# Altium integrated library TI Data Converters Analog to Digital Converter.IntLib: 2198 symbols (part 62 of 164)
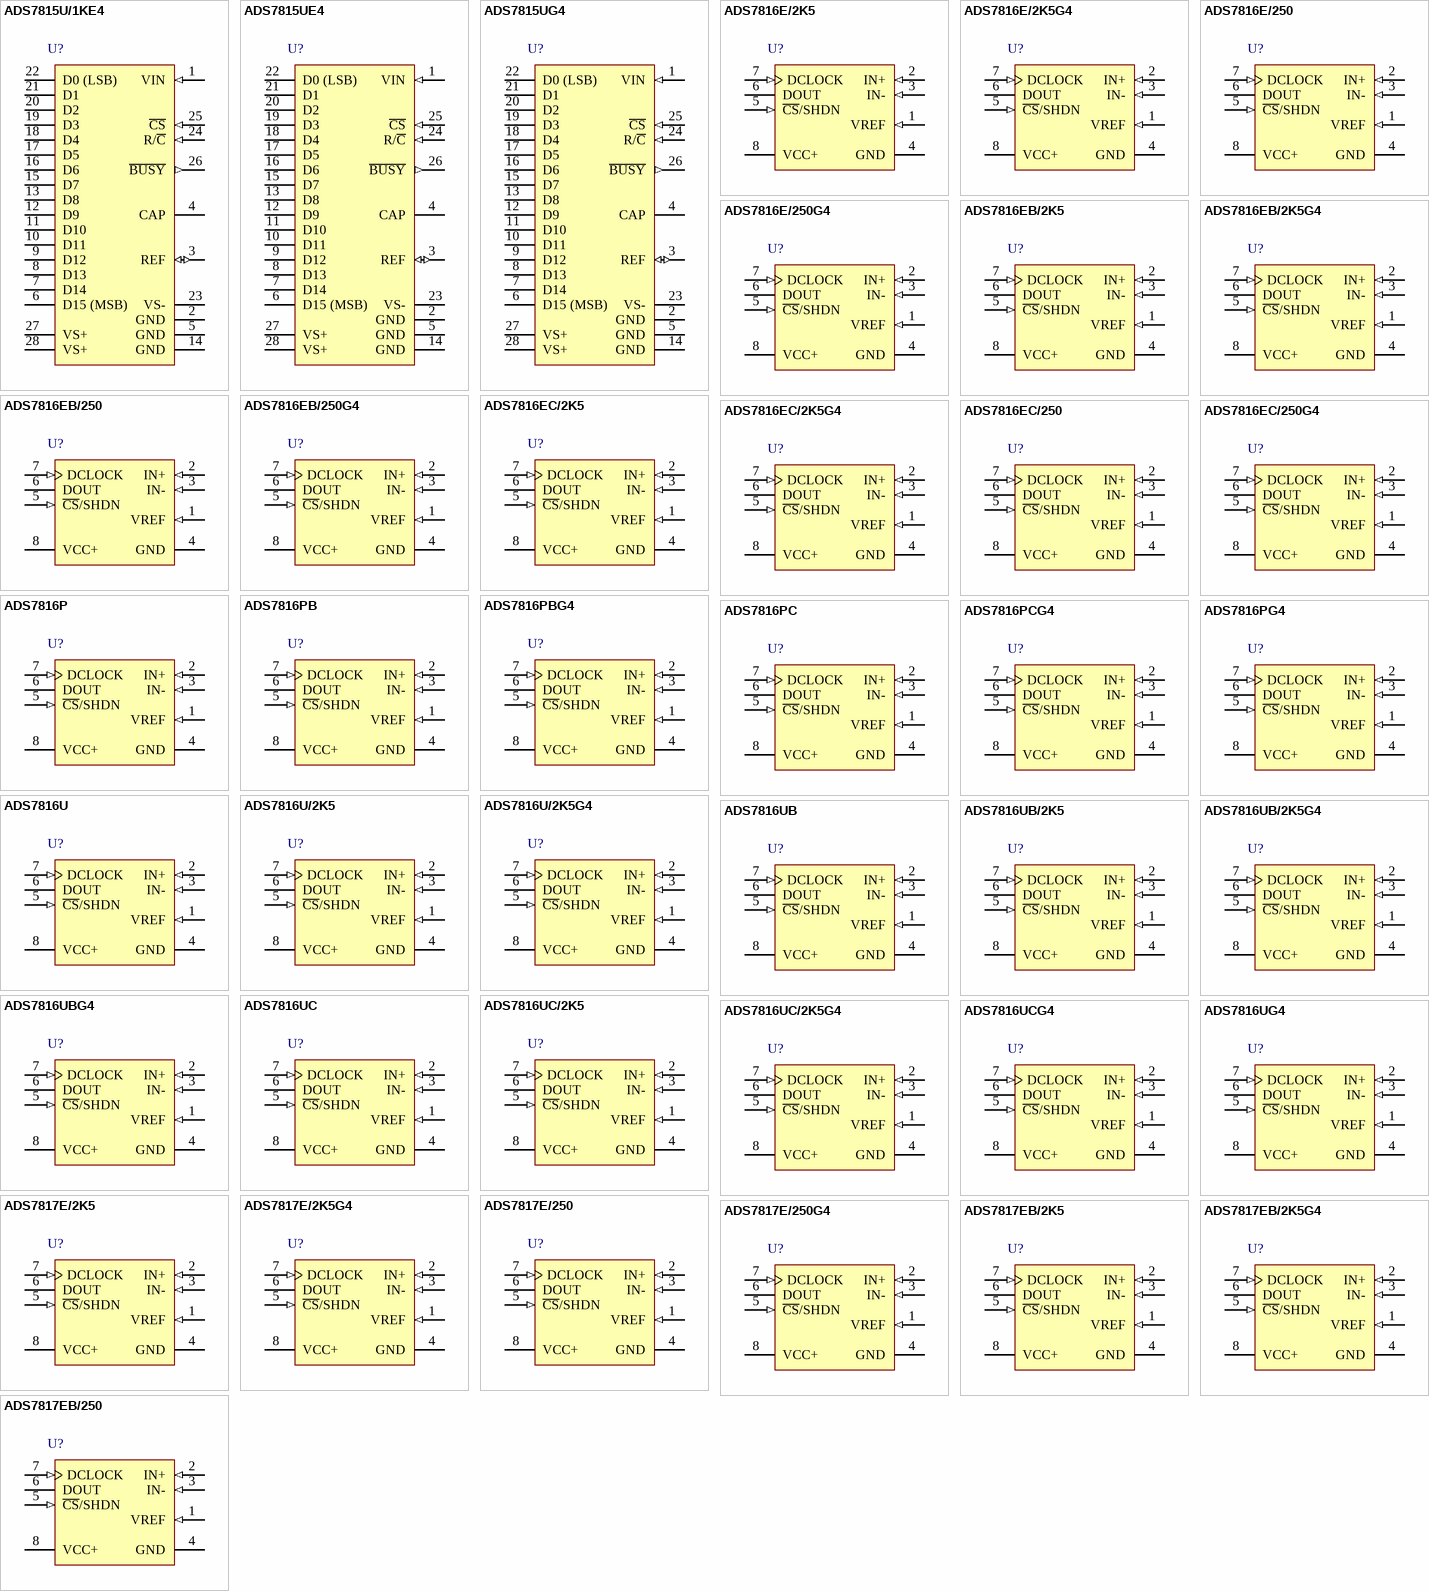
[diagram p187: symbols ADS7815U/1KE4 to ADS7817EB/250]

## ADS7817EB/250
designator U?
12-Bit Differential Input Micro Power Sampling ADC, -40 to 85 degC, 8-pin SOP (DGK8), Green (RoHS & no Sb/Br); Manufacturer: Texas Instruments; PartNumber: ADS7817EB/250; # Input Channels: 1; Analog Voltage AV/DD(Max)(V): 5.25; Analog Voltage AV/DD(Min)(V): 4.75; Architecture: SAR; Interface: Serial SPI; Resolution(Bits): 12; Sample Rate (max)(SPS): 200k; SFDR(dB): 86; SINAD(dB): 71; SubFamily: Precision ADC (<=10MSPS); DatasheetVersion: SBAS066A; PackageVersion: 4073329/E, 05/2006; PackageReference: DGK8; PackageDescription: 8-Pin Thin Small Outline, Body 3 x 3 mm, Pitch 0.65 mm; Supplier 1: Digi-Key; Supplier Part Number 1: ADS1605IPAPRG4-ND; Digital Supply(Max)(V): 5.25; Digital Supply(Min)(V): 4.75; Eco-Plan: Green (RoHS & no Sb/Br); INL(Max)(+/-LSB): 1; Mounting Technology: Surface Mount; Code_JEDEC: MO-187; ComponentLink1Description: Manufacturer URL; ComponentLink1URL: http://www.ti.com/; ComponentLink2Description: Datasheet; ComponentLink2URL: http://www.ti.com/general/docs/lit/getliterature.tsp?genericPartNumber=ADS7817&fileType=pdf; ComponentLink3Description: Package Specification; ComponentLink3URL: http://www.ti.com/litv/pdf/mpds028d
footprint TI-DGK8_N (SOP, 8-Leads, Body 3x3mm, Pitch 0.65mm, IPC Medium Density)
footprint TI-DGK8_L (SOP, 8-Leads, Body 3x3mm, Pitch 0.65mm, IPC High Density)
footprint TI-DGK8_M (SOP, 8-Leads, Body 3x3mm, Pitch 0.65mm, IPC Low Density)
pins: 1 VREF (in) "Reference input", 2 IN+ (in) "Noninverting input", 3 IN- (in) "Inverting input. Connect to ground or to remote ground sense point.", 4 GND (power) "Ground", 5 ~{CS}/SHDN (in) "Chip select when low; Shutdown mode when high.", 6 DOUT (hiz) "The serial output data word  is comprised of 12 bits of data. In operation, the data are valid on the falling edge of DCLOCK. The second clock pulse after the falling edge of C\S\ enables the serial output. After one null (See Datasheet)", 7 DCLOCK (in) "Data clock synchronizes the serial data transfer and determines conversion speed.", 8 VCC+ (power) "Power supply"

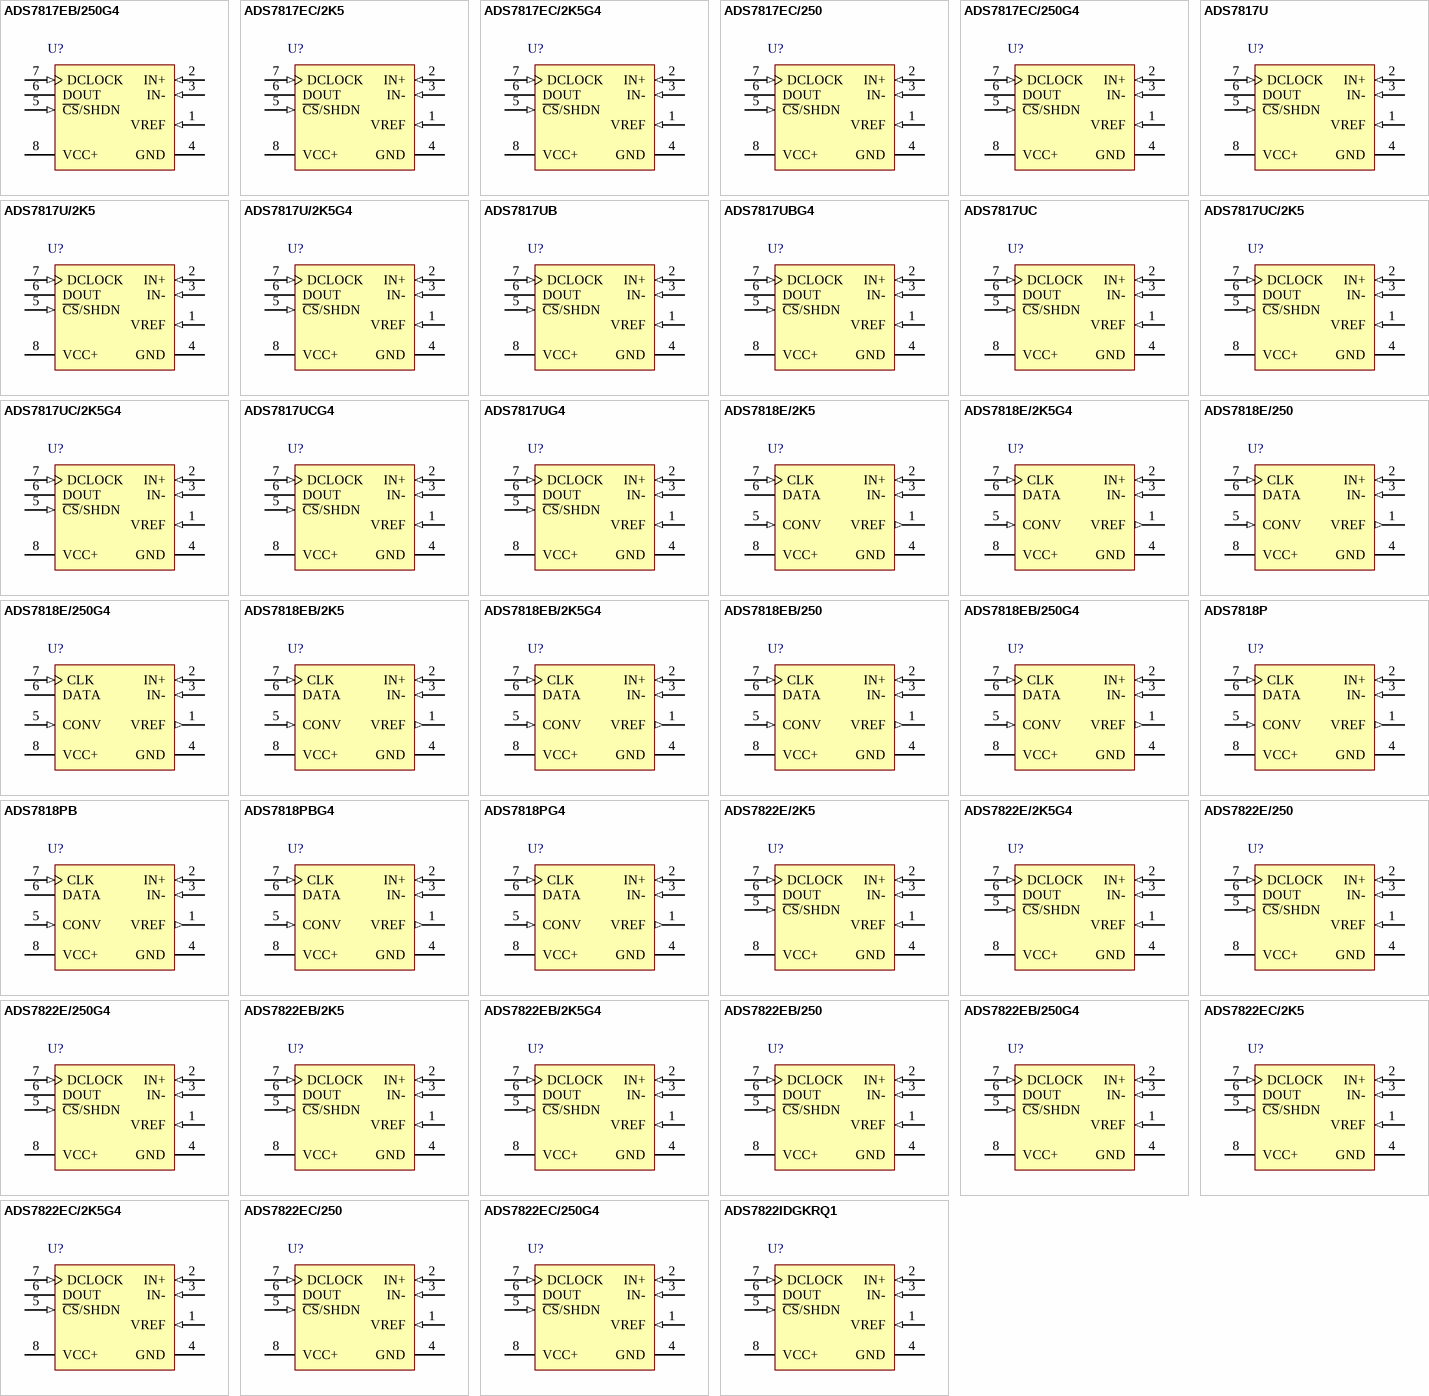
[diagram p60: symbols ADS7817EB/250G4 to ADS7822IDGKRQ1]

## ADS7817EB/250G4
designator U?
12-Bit Differential Input Micro Power Sampling ADC, -40 to 85 degC, 8-pin SOP (DGK8), Green (RoHS & no Sb/Br); Manufacturer: Texas Instruments; PartNumber: ADS7817EB/250G4; # Input Channels: 1; Analog Voltage AV/DD(Max)(V): 5.25; Analog Voltage AV/DD(Min)(V): 4.75; Architecture: SAR; Interface: Serial SPI; Resolution(Bits): 12; Sample Rate (max)(SPS): 200k; SFDR(dB): 86; SINAD(dB): 71; SubFamily: Precision ADC (<=10MSPS); DatasheetVersion: SBAS066A; PackageVersion: 4073329/E, 05/2006; PackageReference: DGK8; PackageDescription: 8-Pin Thin Small Outline, Body 3 x 3 mm, Pitch 0.65 mm; Supplier 1: Digi-Key; Supplier Part Number 1: 296-14643-2-ND; Digital Supply(Max)(V): 5.25; Digital Supply(Min)(V): 4.75; Eco-Plan: Green (RoHS & no Sb/Br); INL(Max)(+/-LSB): 1; Mounting Technology: Surface Mount; Code_JEDEC: MO-187; ComponentLink1Description: Manufacturer URL; ComponentLink1URL: http://www.ti.com/; ComponentLink2Description: Datasheet; ComponentLink2URL: http://www.ti.com/general/docs/lit/getliterature.tsp?genericPartNumber=ADS7817&fileType=pdf; ComponentLink3Description: Package Specification; ComponentLink3URL: http://www.ti.com/litv/pdf/mpds028d
footprint TI-DGK8_N (SOP, 8-Leads, Body 3x3mm, Pitch 0.65mm, IPC Medium Density)
footprint TI-DGK8_L (SOP, 8-Leads, Body 3x3mm, Pitch 0.65mm, IPC High Density)
footprint TI-DGK8_M (SOP, 8-Leads, Body 3x3mm, Pitch 0.65mm, IPC Low Density)
pins: 1 VREF (in) "Reference input", 2 IN+ (in) "Noninverting input", 3 IN- (in) "Inverting input. Connect to ground or to remote ground sense point.", 4 GND (power) "Ground", 5 ~{CS}/SHDN (in) "Chip select when low; Shutdown mode when high.", 6 DOUT (hiz) "The serial output data word  is comprised of 12 bits of data. In operation, the data are valid on the falling edge of DCLOCK. The second clock pulse after the falling edge of C\S\ enables the serial output. After one null (See Datasheet)", 7 DCLOCK (in) "Data clock synchronizes the serial data transfer and determines conversion speed.", 8 VCC+ (power) "Power supply"

## ADS7817EC/2K5
designator U?
12-Bit Differential Input Micro Power Sampling ADC, -40 to 85 degC, 8-pin SOP (DGK8), Green (RoHS & no Sb/Br); Manufacturer: Texas Instruments; PartNumber: ADS7817EC/2K5; # Input Channels: 1; Analog Voltage AV/DD(Max)(V): 5.25; Analog Voltage AV/DD(Min)(V): 4.75; Architecture: SAR; Interface: Serial SPI; Resolution(Bits): 12; Sample Rate (max)(SPS): 200k; SFDR(dB): 86; SINAD(dB): 71; SubFamily: Precision ADC (<=10MSPS); DatasheetVersion: SBAS066A; PackageVersion: 4073329/E, 05/2006; PackageReference: DGK8; PackageDescription: 8-Pin Thin Small Outline, Body 3 x 3 mm, Pitch 0.65 mm; Supplier 1: Digi-Key; Supplier Part Number 1: ADS1605IPAPTG4-ND; Digital Supply(Max)(V): 5.25; Digital Supply(Min)(V): 4.75; Eco-Plan: Green (RoHS & no Sb/Br); INL(Max)(+/-LSB): 1; Mounting Technology: Surface Mount; Code_JEDEC: MO-187; ComponentLink1Description: Manufacturer URL; ComponentLink1URL: http://www.ti.com/; ComponentLink2Description: Datasheet; ComponentLink2URL: http://www.ti.com/general/docs/lit/getliterature.tsp?genericPartNumber=ADS7817&fileType=pdf; ComponentLink3Description: Package Specification; ComponentLink3URL: http://www.ti.com/litv/pdf/mpds028d
footprint TI-DGK8_N (SOP, 8-Leads, Body 3x3mm, Pitch 0.65mm, IPC Medium Density)
footprint TI-DGK8_L (SOP, 8-Leads, Body 3x3mm, Pitch 0.65mm, IPC High Density)
footprint TI-DGK8_M (SOP, 8-Leads, Body 3x3mm, Pitch 0.65mm, IPC Low Density)
pins: 1 VREF (in) "Reference input", 2 IN+ (in) "Noninverting input", 3 IN- (in) "Inverting input. Connect to ground or to remote ground sense point.", 4 GND (power) "Ground", 5 ~{CS}/SHDN (in) "Chip select when low; Shutdown mode when high.", 6 DOUT (hiz) "The serial output data word  is comprised of 12 bits of data. In operation, the data are valid on the falling edge of DCLOCK. The second clock pulse after the falling edge of C\S\ enables the serial output. After one null (See Datasheet)", 7 DCLOCK (in) "Data clock synchronizes the serial data transfer and determines conversion speed.", 8 VCC+ (power) "Power supply"

## ADS7817EC/2K5G4
designator U?
12-Bit Differential Input Micro Power Sampling ADC, -40 to 85 degC, 8-pin SOP (DGK8), Green (RoHS & no Sb/Br); Manufacturer: Texas Instruments; PartNumber: ADS7817EC/2K5G4; # Input Channels: 1; Analog Voltage AV/DD(Max)(V): 5.25; Analog Voltage AV/DD(Min)(V): 4.75; Architecture: SAR; Interface: Serial SPI; Resolution(Bits): 12; Sample Rate (max)(SPS): 200k; SFDR(dB): 86; SINAD(dB): 71; SubFamily: Precision ADC (<=10MSPS); DatasheetVersion: SBAS066A; PackageVersion: 4073329/E, 05/2006; PackageReference: DGK8; PackageDescription: 8-Pin Thin Small Outline, Body 3 x 3 mm, Pitch 0.65 mm; Supplier 1: Digi-Key; Supplier Part Number 1: ADS2807Y/1K5TR-ND; Digital Supply(Max)(V): 5.25; Digital Supply(Min)(V): 4.75; Eco-Plan: Green (RoHS & no Sb/Br); INL(Max)(+/-LSB): 1; Mounting Technology: Surface Mount; Code_JEDEC: MO-187; ComponentLink1Description: Manufacturer URL; ComponentLink1URL: http://www.ti.com/; ComponentLink2Description: Datasheet; ComponentLink2URL: http://www.ti.com/general/docs/lit/getliterature.tsp?genericPartNumber=ADS7817&fileType=pdf; ComponentLink3Description: Package Specification; ComponentLink3URL: http://www.ti.com/litv/pdf/mpds028d
footprint TI-DGK8_N (SOP, 8-Leads, Body 3x3mm, Pitch 0.65mm, IPC Medium Density)
footprint TI-DGK8_L (SOP, 8-Leads, Body 3x3mm, Pitch 0.65mm, IPC High Density)
footprint TI-DGK8_M (SOP, 8-Leads, Body 3x3mm, Pitch 0.65mm, IPC Low Density)
pins: 1 VREF (in) "Reference input", 2 IN+ (in) "Noninverting input", 3 IN- (in) "Inverting input. Connect to ground or to remote ground sense point.", 4 GND (power) "Ground", 5 ~{CS}/SHDN (in) "Chip select when low; Shutdown mode when high.", 6 DOUT (hiz) "The serial output data word  is comprised of 12 bits of data. In operation, the data are valid on the falling edge of DCLOCK. The second clock pulse after the falling edge of C\S\ enables the serial output. After one null (See Datasheet)", 7 DCLOCK (in) "Data clock synchronizes the serial data transfer and determines conversion speed.", 8 VCC+ (power) "Power supply"

## ADS7817EC/250
designator U?
12-Bit Differential Input Micro Power Sampling ADC, -40 to 85 degC, 8-pin SOP (DGK8), Green (RoHS & no Sb/Br); Manufacturer: Texas Instruments; PartNumber: ADS7817EC/250; # Input Channels: 1; Analog Voltage AV/DD(Max)(V): 5.25; Analog Voltage AV/DD(Min)(V): 4.75; Architecture: SAR; Interface: Serial SPI; Resolution(Bits): 12; Sample Rate (max)(SPS): 200k; SFDR(dB): 86; SINAD(dB): 71; SubFamily: Precision ADC (<=10MSPS); DatasheetVersion: SBAS066A; PackageVersion: 4073329/E, 05/2006; PackageReference: DGK8; PackageDescription: 8-Pin Thin Small Outline, Body 3 x 3 mm, Pitch 0.65 mm; Supplier 1: Digi-Key; Supplier Part Number 1: ADS2807Y/1K5G4-ND; Digital Supply(Max)(V): 5.25; Digital Supply(Min)(V): 4.75; Eco-Plan: Green (RoHS & no Sb/Br); INL(Max)(+/-LSB): 1; Mounting Technology: Surface Mount; Code_JEDEC: MO-187; ComponentLink1Description: Manufacturer URL; ComponentLink1URL: http://www.ti.com/; ComponentLink2Description: Datasheet; ComponentLink2URL: http://www.ti.com/general/docs/lit/getliterature.tsp?genericPartNumber=ADS7817&fileType=pdf; ComponentLink3Description: Package Specification; ComponentLink3URL: http://www.ti.com/litv/pdf/mpds028d
footprint TI-DGK8_N (SOP, 8-Leads, Body 3x3mm, Pitch 0.65mm, IPC Medium Density)
footprint TI-DGK8_L (SOP, 8-Leads, Body 3x3mm, Pitch 0.65mm, IPC High Density)
footprint TI-DGK8_M (SOP, 8-Leads, Body 3x3mm, Pitch 0.65mm, IPC Low Density)
pins: 1 VREF (in) "Reference input", 2 IN+ (in) "Noninverting input", 3 IN- (in) "Inverting input. Connect to ground or to remote ground sense point.", 4 GND (power) "Ground", 5 ~{CS}/SHDN (in) "Chip select when low; Shutdown mode when high.", 6 DOUT (hiz) "The serial output data word  is comprised of 12 bits of data. In operation, the data are valid on the falling edge of DCLOCK. The second clock pulse after the falling edge of C\S\ enables the serial output. After one null (See Datasheet)", 7 DCLOCK (in) "Data clock synchronizes the serial data transfer and determines conversion speed.", 8 VCC+ (power) "Power supply"

## ADS7817EC/250G4
designator U?
12-Bit Differential Input Micro Power Sampling ADC, -40 to 85 degC, 8-pin SOP (DGK8), Green (RoHS & no Sb/Br); Manufacturer: Texas Instruments; PartNumber: ADS7817EC/250G4; # Input Channels: 1; Analog Voltage AV/DD(Max)(V): 5.25; Analog Voltage AV/DD(Min)(V): 4.75; Architecture: SAR; Interface: Serial SPI; Resolution(Bits): 12; Sample Rate (max)(SPS): 200k; SFDR(dB): 86; SINAD(dB): 71; SubFamily: Precision ADC (<=10MSPS); DatasheetVersion: SBAS066A; PackageVersion: 4073329/E, 05/2006; PackageReference: DGK8; PackageDescription: 8-Pin Thin Small Outline, Body 3 x 3 mm, Pitch 0.65 mm; Supplier 1: Digi-Key; Supplier Part Number 1: ADS2807Y/250TR-ND; Digital Supply(Max)(V): 5.25; Digital Supply(Min)(V): 4.75; Eco-Plan: Green (RoHS & no Sb/Br); INL(Max)(+/-LSB): 1; Mounting Technology: Surface Mount; Code_JEDEC: MO-187; ComponentLink1Description: Manufacturer URL; ComponentLink1URL: http://www.ti.com/; ComponentLink2Description: Datasheet; ComponentLink2URL: http://www.ti.com/general/docs/lit/getliterature.tsp?genericPartNumber=ADS7817&fileType=pdf; ComponentLink3Description: Package Specification; ComponentLink3URL: http://www.ti.com/litv/pdf/mpds028d
footprint TI-DGK8_N (SOP, 8-Leads, Body 3x3mm, Pitch 0.65mm, IPC Medium Density)
footprint TI-DGK8_L (SOP, 8-Leads, Body 3x3mm, Pitch 0.65mm, IPC High Density)
footprint TI-DGK8_M (SOP, 8-Leads, Body 3x3mm, Pitch 0.65mm, IPC Low Density)
pins: 1 VREF (in) "Reference input", 2 IN+ (in) "Noninverting input", 3 IN- (in) "Inverting input. Connect to ground or to remote ground sense point.", 4 GND (power) "Ground", 5 ~{CS}/SHDN (in) "Chip select when low; Shutdown mode when high.", 6 DOUT (hiz) "The serial output data word  is comprised of 12 bits of data. In operation, the data are valid on the falling edge of DCLOCK. The second clock pulse after the falling edge of C\S\ enables the serial output. After one null (See Datasheet)", 7 DCLOCK (in) "Data clock synchronizes the serial data transfer and determines conversion speed.", 8 VCC+ (power) "Power supply"

## ADS7817U
designator U?
12-Bit Differential Input Micro Power Sampling ADC, -40 to 85 degC, 8-pin SOIC (D8), Green (RoHS & no Sb/Br); Manufacturer: Texas Instruments; PartNumber: ADS7817U; # Input Channels: 1; Analog Voltage AV/DD(Max)(V): 5.25; Analog Voltage AV/DD(Min)(V): 4.75; Architecture: SAR; Interface: Serial SPI; Resolution(Bits): 12; Sample Rate (max)(SPS): 200k; SFDR(dB): 86; SINAD(dB): 71; SubFamily: Precision ADC (<=10MSPS); DatasheetVersion: SBAS066A; PackageVersion: 4040047-3/M, 06/2011; PackageReference: D8; PackageDescription: 8-Pin Plastic Small Outline, Body 4.9 x 3.9 mm, Pitch 1.27 mm; Supplier 1: Digi-Key; Supplier Part Number 1: ADS2807Y/250G4-ND; Digital Supply(Max)(V): 5.25; Digital Supply(Min)(V): 4.75; Eco-Plan: Green (RoHS & no Sb/Br); INL(Max)(+/-LSB): 1; Mounting Technology: Surface Mount; Code_JEDEC: MS-012; ComponentLink1Description: Manufacturer URL; ComponentLink1URL: http://www.ti.com/; ComponentLink2Description: Datasheet; ComponentLink2URL: http://www.ti.com/general/docs/lit/getliterature.tsp?genericPartNumber=ADS7817&fileType=pdf; ComponentLink3Description: Package Specification; ComponentLink3URL: http://www.ti.com/litv/pdf/msoi002j
footprint TI-D8_N (SOIC, 8-Leads, Body 4.9x3.9mm, Pitch 1.27mm, IPC Medium Density)
footprint TI-D8_L (SOIC, 8-Leads, Body 4.9x3.9mm, Pitch 1.27mm, IPC High Density)
footprint TI-D8_M (SOIC, 8-Leads, Body 4.9x3.9mm, Pitch 1.27mm, IPC Low Density)
pins: 1 VREF (in) "Reference input", 2 IN+ (in) "Noninverting input", 3 IN- (in) "Inverting input. Connect to ground or to remote ground sense point.", 4 GND (power) "Ground", 5 ~{CS}/SHDN (in) "Chip select when low; Shutdown mode when high.", 6 DOUT (hiz) "The serial output data word  is comprised of 12 bits of data. In operation, the data are valid on the falling edge of DCLOCK. The second clock pulse after the falling edge of C\S\ enables the serial output. After one null (See Datasheet)", 7 DCLOCK (in) "Data clock synchronizes the serial data transfer and determines conversion speed.", 8 VCC+ (power) "Power supply"

## ADS7817U/2K5
designator U?
12-Bit Differential Input Micro Power Sampling ADC, -40 to 85 degC, 8-pin SOIC (D8), Green (RoHS & no Sb/Br); Manufacturer: Texas Instruments; PartNumber: ADS7817U/2K5; # Input Channels: 1; Analog Voltage AV/DD(Max)(V): 5.25; Analog Voltage AV/DD(Min)(V): 4.75; Architecture: SAR; Interface: Serial SPI; Resolution(Bits): 12; Sample Rate (max)(SPS): 200k; SFDR(dB): 86; SINAD(dB): 71; SubFamily: Precision ADC (<=10MSPS); DatasheetVersion: SBAS066A; PackageVersion: 4040047-3/M, 06/2011; PackageReference: D8; PackageDescription: 8-Pin Plastic Small Outline, Body 4.9 x 3.9 mm, Pitch 1.27 mm; Supplier 1: Digi-Key; Supplier Part Number 1: ADS2806Y/250TR-ND; Digital Supply(Max)(V): 5.25; Digital Supply(Min)(V): 4.75; Eco-Plan: Green (RoHS & no Sb/Br); INL(Max)(+/-LSB): 1; Mounting Technology: Surface Mount; Code_JEDEC: MS-012; ComponentLink1Description: Manufacturer URL; ComponentLink1URL: http://www.ti.com/; ComponentLink2Description: Datasheet; ComponentLink2URL: http://www.ti.com/general/docs/lit/getliterature.tsp?genericPartNumber=ADS7817&fileType=pdf; ComponentLink3Description: Package Specification; ComponentLink3URL: http://www.ti.com/litv/pdf/msoi002j
footprint TI-D8_N (SOIC, 8-Leads, Body 4.9x3.9mm, Pitch 1.27mm, IPC Medium Density)
footprint TI-D8_L (SOIC, 8-Leads, Body 4.9x3.9mm, Pitch 1.27mm, IPC High Density)
footprint TI-D8_M (SOIC, 8-Leads, Body 4.9x3.9mm, Pitch 1.27mm, IPC Low Density)
pins: 1 VREF (in) "Reference input", 2 IN+ (in) "Noninverting input", 3 IN- (in) "Inverting input. Connect to ground or to remote ground sense point.", 4 GND (power) "Ground", 5 ~{CS}/SHDN (in) "Chip select when low; Shutdown mode when high.", 6 DOUT (hiz) "The serial output data word  is comprised of 12 bits of data. In operation, the data are valid on the falling edge of DCLOCK. The second clock pulse after the falling edge of C\S\ enables the serial output. After one null (See Datasheet)", 7 DCLOCK (in) "Data clock synchronizes the serial data transfer and determines conversion speed.", 8 VCC+ (power) "Power supply"

## ADS7817U/2K5G4
designator U?
12-Bit Differential Input Micro Power Sampling ADC, -40 to 85 degC, 8-pin SOIC (D8), Green (RoHS & no Sb/Br); Manufacturer: Texas Instruments; PartNumber: ADS7817U/2K5G4; # Input Channels: 1; Analog Voltage AV/DD(Max)(V): 5.25; Analog Voltage AV/DD(Min)(V): 4.75; Architecture: SAR; Interface: Serial SPI; Resolution(Bits): 12; Sample Rate (max)(SPS): 200k; SFDR(dB): 86; SINAD(dB): 71; SubFamily: Precision ADC (<=10MSPS); DatasheetVersion: SBAS066A; PackageVersion: 4040047-3/M, 06/2011; PackageReference: D8; PackageDescription: 8-Pin Plastic Small Outline, Body 4.9 x 3.9 mm, Pitch 1.27 mm; Supplier 1: Digi-Key; Supplier Part Number 1: ADS2806Y/250G4-ND; Digital Supply(Max)(V): 5.25; Digital Supply(Min)(V): 4.75; Eco-Plan: Green (RoHS & no Sb/Br); INL(Max)(+/-LSB): 1; Mounting Technology: Surface Mount; Code_JEDEC: MS-012; ComponentLink1Description: Manufacturer URL; ComponentLink1URL: http://www.ti.com/; ComponentLink2Description: Datasheet; ComponentLink2URL: http://www.ti.com/general/docs/lit/getliterature.tsp?genericPartNumber=ADS7817&fileType=pdf; ComponentLink3Description: Package Specification; ComponentLink3URL: http://www.ti.com/litv/pdf/msoi002j
footprint TI-D8_N (SOIC, 8-Leads, Body 4.9x3.9mm, Pitch 1.27mm, IPC Medium Density)
footprint TI-D8_L (SOIC, 8-Leads, Body 4.9x3.9mm, Pitch 1.27mm, IPC High Density)
footprint TI-D8_M (SOIC, 8-Leads, Body 4.9x3.9mm, Pitch 1.27mm, IPC Low Density)
pins: 1 VREF (in) "Reference input", 2 IN+ (in) "Noninverting input", 3 IN- (in) "Inverting input. Connect to ground or to remote ground sense point.", 4 GND (power) "Ground", 5 ~{CS}/SHDN (in) "Chip select when low; Shutdown mode when high.", 6 DOUT (hiz) "The serial output data word  is comprised of 12 bits of data. In operation, the data are valid on the falling edge of DCLOCK. The second clock pulse after the falling edge of C\S\ enables the serial output. After one null (See Datasheet)", 7 DCLOCK (in) "Data clock synchronizes the serial data transfer and determines conversion speed.", 8 VCC+ (power) "Power supply"

## ADS7817UB
designator U?
12-Bit Differential Input Micro Power Sampling ADC, -40 to 85 degC, 8-pin SOIC (D8), Green (RoHS & no Sb/Br); Manufacturer: Texas Instruments; PartNumber: ADS7817UB; # Input Channels: 1; Analog Voltage AV/DD(Max)(V): 5.25; Analog Voltage AV/DD(Min)(V): 4.75; Architecture: SAR; Interface: Serial SPI; Resolution(Bits): 12; Sample Rate (max)(SPS): 200k; SFDR(dB): 86; SINAD(dB): 71; SubFamily: Precision ADC (<=10MSPS); DatasheetVersion: SBAS066A; PackageVersion: 4040047-3/M, 06/2011; PackageReference: D8; PackageDescription: 8-Pin Plastic Small Outline, Body 4.9 x 3.9 mm, Pitch 1.27 mm; Supplier 1: Digi-Key; Supplier Part Number 1: ADS5422Y/250TR-ND; Digital Supply(Max)(V): 5.25; Digital Supply(Min)(V): 4.75; Eco-Plan: Green (RoHS & no Sb/Br); INL(Max)(+/-LSB): 1; Mounting Technology: Surface Mount; Code_JEDEC: MS-012; ComponentLink1Description: Manufacturer URL; ComponentLink1URL: http://www.ti.com/; ComponentLink2Description: Datasheet; ComponentLink2URL: http://www.ti.com/general/docs/lit/getliterature.tsp?genericPartNumber=ADS7817&fileType=pdf; ComponentLink3Description: Package Specification; ComponentLink3URL: http://www.ti.com/litv/pdf/msoi002j
footprint TI-D8_N (SOIC, 8-Leads, Body 4.9x3.9mm, Pitch 1.27mm, IPC Medium Density)
footprint TI-D8_L (SOIC, 8-Leads, Body 4.9x3.9mm, Pitch 1.27mm, IPC High Density)
footprint TI-D8_M (SOIC, 8-Leads, Body 4.9x3.9mm, Pitch 1.27mm, IPC Low Density)
pins: 1 VREF (in) "Reference input", 2 IN+ (in) "Noninverting input", 3 IN- (in) "Inverting input. Connect to ground or to remote ground sense point.", 4 GND (power) "Ground", 5 ~{CS}/SHDN (in) "Chip select when low; Shutdown mode when high.", 6 DOUT (hiz) "The serial output data word  is comprised of 12 bits of data. In operation, the data are valid on the falling edge of DCLOCK. The second clock pulse after the falling edge of C\S\ enables the serial output. After one null (See Datasheet)", 7 DCLOCK (in) "Data clock synchronizes the serial data transfer and determines conversion speed.", 8 VCC+ (power) "Power supply"

## ADS7817UBG4
designator U?
12-Bit Differential Input Micro Power Sampling ADC, -40 to 85 degC, 8-pin SOIC (D8), Green (RoHS & no Sb/Br); Manufacturer: Texas Instruments; PartNumber: ADS7817UBG4; # Input Channels: 1; Analog Voltage AV/DD(Max)(V): 5.25; Analog Voltage AV/DD(Min)(V): 4.75; Architecture: SAR; Interface: Serial SPI; Resolution(Bits): 12; Sample Rate (max)(SPS): 200k; SFDR(dB): 86; SINAD(dB): 71; SubFamily: Precision ADC (<=10MSPS); DatasheetVersion: SBAS066A; PackageVersion: 4040047-3/M, 06/2011; PackageReference: D8; PackageDescription: 8-Pin Plastic Small Outline, Body 4.9 x 3.9 mm, Pitch 1.27 mm; Supplier 1: Digi-Key; Supplier Part Number 1: ADS5422Y/250G4-ND; Digital Supply(Max)(V): 5.25; Digital Supply(Min)(V): 4.75; Eco-Plan: Green (RoHS & no Sb/Br); INL(Max)(+/-LSB): 1; Mounting Technology: Surface Mount; Code_JEDEC: MS-012; ComponentLink1Description: Manufacturer URL; ComponentLink1URL: http://www.ti.com/; ComponentLink2Description: Datasheet; ComponentLink2URL: http://www.ti.com/general/docs/lit/getliterature.tsp?genericPartNumber=ADS7817&fileType=pdf; ComponentLink3Description: Package Specification; ComponentLink3URL: http://www.ti.com/litv/pdf/msoi002j
footprint TI-D8_N (SOIC, 8-Leads, Body 4.9x3.9mm, Pitch 1.27mm, IPC Medium Density)
footprint TI-D8_L (SOIC, 8-Leads, Body 4.9x3.9mm, Pitch 1.27mm, IPC High Density)
footprint TI-D8_M (SOIC, 8-Leads, Body 4.9x3.9mm, Pitch 1.27mm, IPC Low Density)
pins: 1 VREF (in) "Reference input", 2 IN+ (in) "Noninverting input", 3 IN- (in) "Inverting input. Connect to ground or to remote ground sense point.", 4 GND (power) "Ground", 5 ~{CS}/SHDN (in) "Chip select when low; Shutdown mode when high.", 6 DOUT (hiz) "The serial output data word  is comprised of 12 bits of data. In operation, the data are valid on the falling edge of DCLOCK. The second clock pulse after the falling edge of C\S\ enables the serial output. After one null (See Datasheet)", 7 DCLOCK (in) "Data clock synchronizes the serial data transfer and determines conversion speed.", 8 VCC+ (power) "Power supply"

## ADS7817UC
designator U?
12-Bit Differential Input Micro Power Sampling ADC, -40 to 85 degC, 8-pin SOIC (D8), Green (RoHS & no Sb/Br); Manufacturer: Texas Instruments; PartNumber: ADS7817UC; # Input Channels: 1; Analog Voltage AV/DD(Max)(V): 5.25; Analog Voltage AV/DD(Min)(V): 4.75; Architecture: SAR; Interface: Serial SPI; Resolution(Bits): 12; Sample Rate (max)(SPS): 200k; SFDR(dB): 86; SINAD(dB): 71; SubFamily: Precision ADC (<=10MSPS); DatasheetVersion: SBAS066A; PackageVersion: 4040047-3/M, 06/2011; PackageReference: D8; PackageDescription: 8-Pin Plastic Small Outline, Body 4.9 x 3.9 mm, Pitch 1.27 mm; Supplier 1: Digi-Key; Supplier Part Number 1: ADS5421Y/TTR-ND; Digital Supply(Max)(V): 5.25; Digital Supply(Min)(V): 4.75; Eco-Plan: Green (RoHS & no Sb/Br); INL(Max)(+/-LSB): 1; Mounting Technology: Surface Mount; Code_JEDEC: MS-012; ComponentLink1Description: Manufacturer URL; ComponentLink1URL: http://www.ti.com/; ComponentLink2Description: Datasheet; ComponentLink2URL: http://www.ti.com/general/docs/lit/getliterature.tsp?genericPartNumber=ADS7817&fileType=pdf; ComponentLink3Description: Package Specification; ComponentLink3URL: http://www.ti.com/litv/pdf/msoi002j
footprint TI-D8_N (SOIC, 8-Leads, Body 4.9x3.9mm, Pitch 1.27mm, IPC Medium Density)
footprint TI-D8_L (SOIC, 8-Leads, Body 4.9x3.9mm, Pitch 1.27mm, IPC High Density)
footprint TI-D8_M (SOIC, 8-Leads, Body 4.9x3.9mm, Pitch 1.27mm, IPC Low Density)
pins: 1 VREF (in) "Reference input", 2 IN+ (in) "Noninverting input", 3 IN- (in) "Inverting input. Connect to ground or to remote ground sense point.", 4 GND (power) "Ground", 5 ~{CS}/SHDN (in) "Chip select when low; Shutdown mode when high.", 6 DOUT (hiz) "The serial output data word  is comprised of 12 bits of data. In operation, the data are valid on the falling edge of DCLOCK. The second clock pulse after the falling edge of C\S\ enables the serial output. After one null (See Datasheet)", 7 DCLOCK (in) "Data clock synchronizes the serial data transfer and determines conversion speed.", 8 VCC+ (power) "Power supply"

## ADS7817UC/2K5
designator U?
12-Bit Differential Input Micro Power Sampling ADC, -40 to 85 degC, 8-pin SOIC (D8), Green (RoHS & no Sb/Br); Manufacturer: Texas Instruments; PartNumber: ADS7817UC/2K5; # Input Channels: 1; Analog Voltage AV/DD(Max)(V): 5.25; Analog Voltage AV/DD(Min)(V): 4.75; Architecture: SAR; Interface: Serial SPI; Resolution(Bits): 12; Sample Rate (max)(SPS): 200k; SFDR(dB): 86; SINAD(dB): 71; SubFamily: Precision ADC (<=10MSPS); DatasheetVersion: SBAS066A; PackageVersion: 4040047-3/M, 06/2011; PackageReference: D8; PackageDescription: 8-Pin Plastic Small Outline, Body 4.9 x 3.9 mm, Pitch 1.27 mm; Supplier 1: Digi-Key; Supplier Part Number 1: ADS5421Y/TG4-ND; Digital Supply(Max)(V): 5.25; Digital Supply(Min)(V): 4.75; Eco-Plan: Green (RoHS & no Sb/Br); INL(Max)(+/-LSB): 1; Mounting Technology: Surface Mount; Code_JEDEC: MS-012; ComponentLink1Description: Manufacturer URL; ComponentLink1URL: http://www.ti.com/; ComponentLink2Description: Datasheet; ComponentLink2URL: http://www.ti.com/general/docs/lit/getliterature.tsp?genericPartNumber=ADS7817&fileType=pdf; ComponentLink3Description: Package Specification; ComponentLink3URL: http://www.ti.com/litv/pdf/msoi002j
footprint TI-D8_N (SOIC, 8-Leads, Body 4.9x3.9mm, Pitch 1.27mm, IPC Medium Density)
footprint TI-D8_L (SOIC, 8-Leads, Body 4.9x3.9mm, Pitch 1.27mm, IPC High Density)
footprint TI-D8_M (SOIC, 8-Leads, Body 4.9x3.9mm, Pitch 1.27mm, IPC Low Density)
pins: 1 VREF (in) "Reference input", 2 IN+ (in) "Noninverting input", 3 IN- (in) "Inverting input. Connect to ground or to remote ground sense point.", 4 GND (power) "Ground", 5 ~{CS}/SHDN (in) "Chip select when low; Shutdown mode when high.", 6 DOUT (hiz) "The serial output data word  is comprised of 12 bits of data. In operation, the data are valid on the falling edge of DCLOCK. The second clock pulse after the falling edge of C\S\ enables the serial output. After one null (See Datasheet)", 7 DCLOCK (in) "Data clock synchronizes the serial data transfer and determines conversion speed.", 8 VCC+ (power) "Power supply"

## ADS7817UC/2K5G4
designator U?
12-Bit Differential Input Micro Power Sampling ADC, -40 to 85 degC, 8-pin SOIC (D8), Green (RoHS & no Sb/Br); Manufacturer: Texas Instruments; PartNumber: ADS7817UC/2K5G4; # Input Channels: 1; Analog Voltage AV/DD(Max)(V): 5.25; Analog Voltage AV/DD(Min)(V): 4.75; Architecture: SAR; Interface: Serial SPI; Resolution(Bits): 12; Sample Rate (max)(SPS): 200k; SFDR(dB): 86; SINAD(dB): 71; SubFamily: Precision ADC (<=10MSPS); DatasheetVersion: SBAS066A; PackageVersion: 4040047-3/M, 06/2011; PackageReference: D8; PackageDescription: 8-Pin Plastic Small Outline, Body 4.9 x 3.9 mm, Pitch 1.27 mm; Supplier 1: Digi-Key; Supplier Part Number 1: 296-13449-2-ND; Digital Supply(Max)(V): 5.25; Digital Supply(Min)(V): 4.75; Eco-Plan: Green (RoHS & no Sb/Br); INL(Max)(+/-LSB): 1; Mounting Technology: Surface Mount; Code_JEDEC: MS-012; ComponentLink1Description: Manufacturer URL; ComponentLink1URL: http://www.ti.com/; ComponentLink2Description: Datasheet; ComponentLink2URL: http://www.ti.com/general/docs/lit/getliterature.tsp?genericPartNumber=ADS7817&fileType=pdf; ComponentLink3Description: Package Specification; ComponentLink3URL: http://www.ti.com/litv/pdf/msoi002j
footprint TI-D8_N (SOIC, 8-Leads, Body 4.9x3.9mm, Pitch 1.27mm, IPC Medium Density)
footprint TI-D8_L (SOIC, 8-Leads, Body 4.9x3.9mm, Pitch 1.27mm, IPC High Density)
footprint TI-D8_M (SOIC, 8-Leads, Body 4.9x3.9mm, Pitch 1.27mm, IPC Low Density)
pins: 1 VREF (in) "Reference input", 2 IN+ (in) "Noninverting input", 3 IN- (in) "Inverting input. Connect to ground or to remote ground sense point.", 4 GND (power) "Ground", 5 ~{CS}/SHDN (in) "Chip select when low; Shutdown mode when high.", 6 DOUT (hiz) "The serial output data word  is comprised of 12 bits of data. In operation, the data are valid on the falling edge of DCLOCK. The second clock pulse after the falling edge of C\S\ enables the serial output. After one null (See Datasheet)", 7 DCLOCK (in) "Data clock synchronizes the serial data transfer and determines conversion speed.", 8 VCC+ (power) "Power supply"

## ADS7817UCG4
designator U?
12-Bit Differential Input Micro Power Sampling ADC, -40 to 85 degC, 8-pin SOIC (D8), Green (RoHS & no Sb/Br); Manufacturer: Texas Instruments; PartNumber: ADS7817UCG4; # Input Channels: 1; Analog Voltage AV/DD(Max)(V): 5.25; Analog Voltage AV/DD(Min)(V): 4.75; Architecture: SAR; Interface: Serial SPI; Resolution(Bits): 12; Sample Rate (max)(SPS): 200k; SFDR(dB): 86; SINAD(dB): 71; SubFamily: Precision ADC (<=10MSPS); DatasheetVersion: SBAS066A; PackageVersion: 4040047-3/M, 06/2011; PackageReference: D8; PackageDescription: 8-Pin Plastic Small Outline, Body 4.9 x 3.9 mm, Pitch 1.27 mm; Supplier 1: Digi-Key; Supplier Part Number 1: ADS8364Y/250G4-ND; Digital Supply(Max)(V): 5.25; Digital Supply(Min)(V): 4.75; Eco-Plan: Green (RoHS & no Sb/Br); INL(Max)(+/-LSB): 1; Mounting Technology: Surface Mount; Code_JEDEC: MS-012; ComponentLink1Description: Manufacturer URL; ComponentLink1URL: http://www.ti.com/; ComponentLink2Description: Datasheet; ComponentLink2URL: http://www.ti.com/general/docs/lit/getliterature.tsp?genericPartNumber=ADS7817&fileType=pdf; ComponentLink3Description: Package Specification; ComponentLink3URL: http://www.ti.com/litv/pdf/msoi002j
footprint TI-D8_N (SOIC, 8-Leads, Body 4.9x3.9mm, Pitch 1.27mm, IPC Medium Density)
footprint TI-D8_L (SOIC, 8-Leads, Body 4.9x3.9mm, Pitch 1.27mm, IPC High Density)
footprint TI-D8_M (SOIC, 8-Leads, Body 4.9x3.9mm, Pitch 1.27mm, IPC Low Density)
pins: 1 VREF (in) "Reference input", 2 IN+ (in) "Noninverting input", 3 IN- (in) "Inverting input. Connect to ground or to remote ground sense point.", 4 GND (power) "Ground", 5 ~{CS}/SHDN (in) "Chip select when low; Shutdown mode when high.", 6 DOUT (hiz) "The serial output data word  is comprised of 12 bits of data. In operation, the data are valid on the falling edge of DCLOCK. The second clock pulse after the falling edge of C\S\ enables the serial output. After one null (See Datasheet)", 7 DCLOCK (in) "Data clock synchronizes the serial data transfer and determines conversion speed.", 8 VCC+ (power) "Power supply"

## ADS7817UG4
designator U?
12-Bit Differential Input Micro Power Sampling ADC, -40 to 85 degC, 8-pin SOIC (D8), Green (RoHS & no Sb/Br); Manufacturer: Texas Instruments; PartNumber: ADS7817UG4; # Input Channels: 1; Analog Voltage AV/DD(Max)(V): 5.25; Analog Voltage AV/DD(Min)(V): 4.75; Architecture: SAR; Interface: Serial SPI; Resolution(Bits): 12; Sample Rate (max)(SPS): 200k; SFDR(dB): 86; SINAD(dB): 71; SubFamily: Precision ADC (<=10MSPS); DatasheetVersion: SBAS066A; PackageVersion: 4040047-3/M, 06/2011; PackageReference: D8; PackageDescription: 8-Pin Plastic Small Outline, Body 4.9 x 3.9 mm, Pitch 1.27 mm; Supplier 1: Digi-Key; Supplier Part Number 1: ADS8364Y/2K-ND; Digital Supply(Max)(V): 5.25; Digital Supply(Min)(V): 4.75; Eco-Plan: Green (RoHS & no Sb/Br); INL(Max)(+/-LSB): 1; Mounting Technology: Surface Mount; Code_JEDEC: MS-012; ComponentLink1Description: Manufacturer URL; ComponentLink1URL: http://www.ti.com/; ComponentLink2Description: Datasheet; ComponentLink2URL: http://www.ti.com/general/docs/lit/getliterature.tsp?genericPartNumber=ADS7817&fileType=pdf; ComponentLink3Description: Package Specification; ComponentLink3URL: http://www.ti.com/litv/pdf/msoi002j
footprint TI-D8_N (SOIC, 8-Leads, Body 4.9x3.9mm, Pitch 1.27mm, IPC Medium Density)
footprint TI-D8_L (SOIC, 8-Leads, Body 4.9x3.9mm, Pitch 1.27mm, IPC High Density)
footprint TI-D8_M (SOIC, 8-Leads, Body 4.9x3.9mm, Pitch 1.27mm, IPC Low Density)
pins: 1 VREF (in) "Reference input", 2 IN+ (in) "Noninverting input", 3 IN- (in) "Inverting input. Connect to ground or to remote ground sense point.", 4 GND (power) "Ground", 5 ~{CS}/SHDN (in) "Chip select when low; Shutdown mode when high.", 6 DOUT (hiz) "The serial output data word  is comprised of 12 bits of data. In operation, the data are valid on the falling edge of DCLOCK. The second clock pulse after the falling edge of C\S\ enables the serial output. After one null (See Datasheet)", 7 DCLOCK (in) "Data clock synchronizes the serial data transfer and determines conversion speed.", 8 VCC+ (power) "Power supply"

## ADS7818E/2K5
designator U?
12-Bit High Speed Low Power Sampling ADC, -40 to 85 degC, 8-pin SOP (DGK8), Green (RoHS & no Sb/Br); Manufacturer: Texas Instruments; PartNumber: ADS7818E/2K5; # Input Channels: 1; Analog Voltage AV/DD(Max)(V): 5.25; Analog Voltage AV/DD(Min)(V): 4.75; Architecture: SAR; INL(Max)(+/-LSB): 2; Interface: Serial SPI; Resolution(Bits): 12; Sample Rate (max)(SPS): 500k; SFDR(dB): 78; SINAD(dB): 70; SNR(dB): 72; SubFamily: Precision ADC (<=10MSPS); DatasheetVersion: SBAS078; PackageVersion: 4073329/E, 05/2006; PackageReference: DGK8; PackageDescription: 8-Pin Thin Small Outline, Body 3 x 3 mm, Pitch 0.65 mm; Supplier 1: Digi-Key; Supplier Part Number 1: ADS8364Y/2KG4-ND; Digital Supply(Max)(V): 5.25; Digital Supply(Min)(V): 4.75; Eco-Plan: Green (RoHS & no Sb/Br); Mounting Technology: Surface Mount; Code_JEDEC: MO-187; ComponentLink1Description: Manufacturer URL; ComponentLink1URL: http://www.ti.com/; ComponentLink2Description: Datasheet; ComponentLink2URL: http://www.ti.com/general/docs/lit/getliterature.tsp?genericPartNumber=ADS7818&fileType=pdf; ComponentLink3Description: Package Specification; ComponentLink3URL: http://www.ti.com/litv/pdf/mpds028d
footprint TI-DGK8_N (SOP, 8-Leads, Body 3x3mm, Pitch 0.65mm, IPC Medium Density)
footprint TI-DGK8_L (SOP, 8-Leads, Body 3x3mm, Pitch 0.65mm, IPC High Density)
footprint TI-DGK8_M (SOP, 8-Leads, Body 3x3mm, Pitch 0.65mm, IPC Low Density)
pins: 1 VREF (out) "Reference Output. Decouple to ground with a 0.1uF ceramic capacitor and a 2.2uF tantalum capacitor.", 2 IN+ (in) "Non-Inverting Input.", 3 IN- (in) "Inverting Input. Connect to ground or to remote ground sense point.", 4 GND (power) "Ground.", 5 CONV (in) "Convert Input. Controls the sample/hold mode, start of conversion, start of serial data transfer, type of serial transfer, and power down mode. See the Digital Interface section for more information.", 6 DATA (hiz) "Serial Data Output. The 12-bit conversion result is serially transmitted most significant bit first with each bit valid on the rising edge of CLK. By properly controlling the CONV input, it is possibly to have the data (See Datasheet)", 7 CLK (in) "Clock Input. Synchronizes the serial data transfer and determines conversion speed.", 8 VCC+ (power) "Power Supply. Decouple to ground with a 0.1uF ceramic capacitor and a 10uF tantalum capacitor."

## ADS7818E/2K5G4
designator U?
12-Bit High Speed Low Power Sampling ADC, -40 to 85 degC, 8-pin SOP (DGK8), Green (RoHS & no Sb/Br); Manufacturer: Texas Instruments; PartNumber: ADS7818E/2K5G4; # Input Channels: 1; Analog Voltage AV/DD(Max)(V): 5.25; Analog Voltage AV/DD(Min)(V): 4.75; Architecture: SAR; INL(Max)(+/-LSB): 2; Interface: Serial SPI; Resolution(Bits): 12; Sample Rate (max)(SPS): 500k; SFDR(dB): 78; SINAD(dB): 70; SNR(dB): 72; SubFamily: Precision ADC (<=10MSPS); DatasheetVersion: SBAS078; PackageVersion: 4073329/E, 05/2006; PackageReference: DGK8; PackageDescription: 8-Pin Thin Small Outline, Body 3 x 3 mm, Pitch 0.65 mm; Supplier 1: Digi-Key; Supplier Part Number 1: 296-19395-ND; Digital Supply(Max)(V): 5.25; Digital Supply(Min)(V): 4.75; Eco-Plan: Green (RoHS & no Sb/Br); Mounting Technology: Surface Mount; Code_JEDEC: MO-187; ComponentLink1Description: Manufacturer URL; ComponentLink1URL: http://www.ti.com/; ComponentLink2Description: Datasheet; ComponentLink2URL: http://www.ti.com/general/docs/lit/getliterature.tsp?genericPartNumber=ADS7818&fileType=pdf; ComponentLink3Description: Package Specification; ComponentLink3URL: http://www.ti.com/litv/pdf/mpds028d
footprint TI-DGK8_N (SOP, 8-Leads, Body 3x3mm, Pitch 0.65mm, IPC Medium Density)
footprint TI-DGK8_L (SOP, 8-Leads, Body 3x3mm, Pitch 0.65mm, IPC High Density)
footprint TI-DGK8_M (SOP, 8-Leads, Body 3x3mm, Pitch 0.65mm, IPC Low Density)
pins: 1 VREF (out) "Reference Output. Decouple to ground with a 0.1uF ceramic capacitor and a 2.2uF tantalum capacitor.", 2 IN+ (in) "Non-Inverting Input.", 3 IN- (in) "Inverting Input. Connect to ground or to remote ground sense point.", 4 GND (power) "Ground.", 5 CONV (in) "Convert Input. Controls the sample/hold mode, start of conversion, start of serial data transfer, type of serial transfer, and power down mode. See the Digital Interface section for more information.", 6 DATA (hiz) "Serial Data Output. The 12-bit conversion result is serially transmitted most significant bit first with each bit valid on the rising edge of CLK. By properly controlling the CONV input, it is possibly to have the data (See Datasheet)", 7 CLK (in) "Clock Input. Synchronizes the serial data transfer and determines conversion speed.", 8 VCC+ (power) "Power Supply. Decouple to ground with a 0.1uF ceramic capacitor and a 10uF tantalum capacitor."

## ADS7818E/250
designator U?
12-Bit High Speed Low Power Sampling ADC, -40 to 85 degC, 8-pin SOP (DGK8), Green (RoHS & no Sb/Br); Manufacturer: Texas Instruments; PartNumber: ADS7818E/250; # Input Channels: 1; Analog Voltage AV/DD(Max)(V): 5.25; Analog Voltage AV/DD(Min)(V): 4.75; Architecture: SAR; INL(Max)(+/-LSB): 2; Interface: Serial SPI; Resolution(Bits): 12; Sample Rate (max)(SPS): 500k; SFDR(dB): 78; SINAD(dB): 70; SNR(dB): 72; SubFamily: Precision ADC (<=10MSPS); DatasheetVersion: SBAS078; PackageVersion: 4073329/E, 05/2006; PackageReference: DGK8; PackageDescription: 8-Pin Thin Small Outline, Body 3 x 3 mm, Pitch 0.65 mm; Supplier 1: Digi-Key; Supplier Part Number 1: 296-18606-ND; Digital Supply(Max)(V): 5.25; Digital Supply(Min)(V): 4.75; Eco-Plan: Green (RoHS & no Sb/Br); Mounting Technology: Surface Mount; Code_JEDEC: MO-187; ComponentLink1Description: Manufacturer URL; ComponentLink1URL: http://www.ti.com/; ComponentLink2Description: Datasheet; ComponentLink2URL: http://www.ti.com/general/docs/lit/getliterature.tsp?genericPartNumber=ADS7818&fileType=pdf; ComponentLink3Description: Package Specification; ComponentLink3URL: http://www.ti.com/litv/pdf/mpds028d
footprint TI-DGK8_N (SOP, 8-Leads, Body 3x3mm, Pitch 0.65mm, IPC Medium Density)
footprint TI-DGK8_L (SOP, 8-Leads, Body 3x3mm, Pitch 0.65mm, IPC High Density)
footprint TI-DGK8_M (SOP, 8-Leads, Body 3x3mm, Pitch 0.65mm, IPC Low Density)
pins: 1 VREF (out) "Reference Output. Decouple to ground with a 0.1uF ceramic capacitor and a 2.2uF tantalum capacitor.", 2 IN+ (in) "Non-Inverting Input.", 3 IN- (in) "Inverting Input. Connect to ground or to remote ground sense point.", 4 GND (power) "Ground.", 5 CONV (in) "Convert Input. Controls the sample/hold mode, start of conversion, start of serial data transfer, type of serial transfer, and power down mode. See the Digital Interface section for more information.", 6 DATA (hiz) "Serial Data Output. The 12-bit conversion result is serially transmitted most significant bit first with each bit valid on the rising edge of CLK. By properly controlling the CONV input, it is possibly to have the data (See Datasheet)", 7 CLK (in) "Clock Input. Synchronizes the serial data transfer and determines conversion speed.", 8 VCC+ (power) "Power Supply. Decouple to ground with a 0.1uF ceramic capacitor and a 10uF tantalum capacitor."

## ADS7818E/250G4
designator U?
12-Bit High Speed Low Power Sampling ADC, -40 to 85 degC, 8-pin SOP (DGK8), Green (RoHS & no Sb/Br); Manufacturer: Texas Instruments; PartNumber: ADS7818E/250G4; # Input Channels: 1; Analog Voltage AV/DD(Max)(V): 5.25; Analog Voltage AV/DD(Min)(V): 4.75; Architecture: SAR; INL(Max)(+/-LSB): 2; Interface: Serial SPI; Resolution(Bits): 12; Sample Rate (max)(SPS): 500k; SFDR(dB): 78; SINAD(dB): 70; SNR(dB): 72; SubFamily: Precision ADC (<=10MSPS); DatasheetVersion: SBAS078; PackageVersion: 4073329/E, 05/2006; PackageReference: DGK8; PackageDescription: 8-Pin Thin Small Outline, Body 3 x 3 mm, Pitch 0.65 mm; Supplier 1: Digi-Key; Supplier Part Number 1: ADS5273IPFPG4-ND; Digital Supply(Max)(V): 5.25; Digital Supply(Min)(V): 4.75; Eco-Plan: Green (RoHS & no Sb/Br); Mounting Technology: Surface Mount; Code_JEDEC: MO-187; ComponentLink1Description: Manufacturer URL; ComponentLink1URL: http://www.ti.com/; ComponentLink2Description: Datasheet; ComponentLink2URL: http://www.ti.com/general/docs/lit/getliterature.tsp?genericPartNumber=ADS7818&fileType=pdf; ComponentLink3Description: Package Specification; ComponentLink3URL: http://www.ti.com/litv/pdf/mpds028d
footprint TI-DGK8_N (SOP, 8-Leads, Body 3x3mm, Pitch 0.65mm, IPC Medium Density)
footprint TI-DGK8_L (SOP, 8-Leads, Body 3x3mm, Pitch 0.65mm, IPC High Density)
footprint TI-DGK8_M (SOP, 8-Leads, Body 3x3mm, Pitch 0.65mm, IPC Low Density)
pins: 1 VREF (out) "Reference Output. Decouple to ground with a 0.1uF ceramic capacitor and a 2.2uF tantalum capacitor.", 2 IN+ (in) "Non-Inverting Input.", 3 IN- (in) "Inverting Input. Connect to ground or to remote ground sense point.", 4 GND (power) "Ground.", 5 CONV (in) "Convert Input. Controls the sample/hold mode, start of conversion, start of serial data transfer, type of serial transfer, and power down mode. See the Digital Interface section for more information.", 6 DATA (hiz) "Serial Data Output. The 12-bit conversion result is serially transmitted most significant bit first with each bit valid on the rising edge of CLK. By properly controlling the CONV input, it is possibly to have the data (See Datasheet)", 7 CLK (in) "Clock Input. Synchronizes the serial data transfer and determines conversion speed.", 8 VCC+ (power) "Power Supply. Decouple to ground with a 0.1uF ceramic capacitor and a 10uF tantalum capacitor."

## ADS7818EB/2K5
designator U?
12-Bit High Speed Low Power Sampling ADC, -40 to 85 degC, 8-pin SOP (DGK8), Green (RoHS & no Sb/Br); Manufacturer: Texas Instruments; PartNumber: ADS7818EB/2K5; # Input Channels: 1; Analog Voltage AV/DD(Max)(V): 5.25; Analog Voltage AV/DD(Min)(V): 4.75; Architecture: SAR; Interface: Serial SPI; Resolution(Bits): 12; Sample Rate (max)(SPS): 500k; SFDR(dB): 82; SINAD(dB): 72; SubFamily: Precision ADC (<=10MSPS); DatasheetVersion: SBAS078; PackageVersion: 4073329/E, 05/2006; PackageReference: DGK8; PackageDescription: 8-Pin Thin Small Outline, Body 3 x 3 mm, Pitch 0.65 mm; Supplier 1: Digi-Key; Supplier Part Number 1: ADS5273IPFPT-ND; Digital Supply(Max)(V): 5.25; Digital Supply(Min)(V): 4.75; Eco-Plan: Green (RoHS & no Sb/Br); INL(Max)(+/-LSB): 1; SNR(dB): 72; Mounting Technology: Surface Mount; Code_JEDEC: MO-187; ComponentLink1Description: Manufacturer URL; ComponentLink1URL: http://www.ti.com/; ComponentLink2Description: Datasheet; ComponentLink2URL: http://www.ti.com/general/docs/lit/getliterature.tsp?genericPartNumber=ADS7818&fileType=pdf; ComponentLink3Description: Package Specification; ComponentLink3URL: http://www.ti.com/litv/pdf/mpds028d
footprint TI-DGK8_N (SOP, 8-Leads, Body 3x3mm, Pitch 0.65mm, IPC Medium Density)
footprint TI-DGK8_L (SOP, 8-Leads, Body 3x3mm, Pitch 0.65mm, IPC High Density)
footprint TI-DGK8_M (SOP, 8-Leads, Body 3x3mm, Pitch 0.65mm, IPC Low Density)
pins: 1 VREF (out) "Reference Output. Decouple to ground with a 0.1uF ceramic capacitor and a 2.2uF tantalum capacitor.", 2 IN+ (in) "Non-Inverting Input.", 3 IN- (in) "Inverting Input. Connect to ground or to remote ground sense point.", 4 GND (power) "Ground.", 5 CONV (in) "Convert Input. Controls the sample/hold mode, start of conversion, start of serial data transfer, type of serial transfer, and power down mode. See the Digital Interface section for more information.", 6 DATA (hiz) "Serial Data Output. The 12-bit conversion result is serially transmitted most significant bit first with each bit valid on the rising edge of CLK. By properly controlling the CONV input, it is possibly to have the data (See Datasheet)", 7 CLK (in) "Clock Input. Synchronizes the serial data transfer and determines conversion speed.", 8 VCC+ (power) "Power Supply. Decouple to ground with a 0.1uF ceramic capacitor and a 10uF tantalum capacitor."

## ADS7818EB/2K5G4
designator U?
12-Bit High Speed Low Power Sampling ADC, -40 to 85 degC, 8-pin SOP (DGK8), Green (RoHS & no Sb/Br); Manufacturer: Texas Instruments; PartNumber: ADS7818EB/2K5G4; # Input Channels: 1; Analog Voltage AV/DD(Max)(V): 5.25; Analog Voltage AV/DD(Min)(V): 4.75; Architecture: SAR; Interface: Serial SPI; Resolution(Bits): 12; Sample Rate (max)(SPS): 500k; SFDR(dB): 82; SINAD(dB): 72; SubFamily: Precision ADC (<=10MSPS); DatasheetVersion: SBAS078; PackageVersion: 4073329/E, 05/2006; PackageReference: DGK8; PackageDescription: 8-Pin Thin Small Outline, Body 3 x 3 mm, Pitch 0.65 mm; Supplier 1: Digi-Key; Supplier Part Number 1: ADS5273IPFPTG4-ND; Digital Supply(Max)(V): 5.25; Digital Supply(Min)(V): 4.75; Eco-Plan: Green (RoHS & no Sb/Br); INL(Max)(+/-LSB): 1; SNR(dB): 72; Mounting Technology: Surface Mount; Code_JEDEC: MO-187; ComponentLink1Description: Manufacturer URL; ComponentLink1URL: http://www.ti.com/; ComponentLink2Description: Datasheet; ComponentLink2URL: http://www.ti.com/general/docs/lit/getliterature.tsp?genericPartNumber=ADS7818&fileType=pdf; ComponentLink3Description: Package Specification; ComponentLink3URL: http://www.ti.com/litv/pdf/mpds028d
footprint TI-DGK8_N (SOP, 8-Leads, Body 3x3mm, Pitch 0.65mm, IPC Medium Density)
footprint TI-DGK8_L (SOP, 8-Leads, Body 3x3mm, Pitch 0.65mm, IPC High Density)
footprint TI-DGK8_M (SOP, 8-Leads, Body 3x3mm, Pitch 0.65mm, IPC Low Density)
pins: 1 VREF (out) "Reference Output. Decouple to ground with a 0.1uF ceramic capacitor and a 2.2uF tantalum capacitor.", 2 IN+ (in) "Non-Inverting Input.", 3 IN- (in) "Inverting Input. Connect to ground or to remote ground sense point.", 4 GND (power) "Ground.", 5 CONV (in) "Convert Input. Controls the sample/hold mode, start of conversion, start of serial data transfer, type of serial transfer, and power down mode. See the Digital Interface section for more information.", 6 DATA (hiz) "Serial Data Output. The 12-bit conversion result is serially transmitted most significant bit first with each bit valid on the rising edge of CLK. By properly controlling the CONV input, it is possibly to have the data (See Datasheet)", 7 CLK (in) "Clock Input. Synchronizes the serial data transfer and determines conversion speed.", 8 VCC+ (power) "Power Supply. Decouple to ground with a 0.1uF ceramic capacitor and a 10uF tantalum capacitor."

## ADS7818EB/250
designator U?
12-Bit High Speed Low Power Sampling ADC, -40 to 85 degC, 8-pin SOP (DGK8), Green (RoHS & no Sb/Br); Manufacturer: Texas Instruments; PartNumber: ADS7818EB/250; # Input Channels: 1; Analog Voltage AV/DD(Max)(V): 5.25; Analog Voltage AV/DD(Min)(V): 4.75; Architecture: SAR; Interface: Serial SPI; Resolution(Bits): 12; Sample Rate (max)(SPS): 500k; SFDR(dB): 82; SINAD(dB): 72; SubFamily: Precision ADC (<=10MSPS); DatasheetVersion: SBAS078; PackageVersion: 4073329/E, 05/2006; PackageReference: DGK8; PackageDescription: 8-Pin Thin Small Outline, Body 3 x 3 mm, Pitch 0.65 mm; Supplier 1: Digi-Key; Supplier Part Number 1: 296-18605-ND; Digital Supply(Max)(V): 5.25; Digital Supply(Min)(V): 4.75; Eco-Plan: Green (RoHS & no Sb/Br); INL(Max)(+/-LSB): 1; SNR(dB): 72; Mounting Technology: Surface Mount; Code_JEDEC: MO-187; ComponentLink1Description: Manufacturer URL; ComponentLink1URL: http://www.ti.com/; ComponentLink2Description: Datasheet; ComponentLink2URL: http://www.ti.com/general/docs/lit/getliterature.tsp?genericPartNumber=ADS7818&fileType=pdf; ComponentLink3Description: Package Specification; ComponentLink3URL: http://www.ti.com/litv/pdf/mpds028d
footprint TI-DGK8_N (SOP, 8-Leads, Body 3x3mm, Pitch 0.65mm, IPC Medium Density)
footprint TI-DGK8_L (SOP, 8-Leads, Body 3x3mm, Pitch 0.65mm, IPC High Density)
footprint TI-DGK8_M (SOP, 8-Leads, Body 3x3mm, Pitch 0.65mm, IPC Low Density)
pins: 1 VREF (out) "Reference Output. Decouple to ground with a 0.1uF ceramic capacitor and a 2.2uF tantalum capacitor.", 2 IN+ (in) "Non-Inverting Input.", 3 IN- (in) "Inverting Input. Connect to ground or to remote ground sense point.", 4 GND (power) "Ground.", 5 CONV (in) "Convert Input. Controls the sample/hold mode, start of conversion, start of serial data transfer, type of serial transfer, and power down mode. See the Digital Interface section for more information.", 6 DATA (hiz) "Serial Data Output. The 12-bit conversion result is serially transmitted most significant bit first with each bit valid on the rising edge of CLK. By properly controlling the CONV input, it is possibly to have the data (See Datasheet)", 7 CLK (in) "Clock Input. Synchronizes the serial data transfer and determines conversion speed.", 8 VCC+ (power) "Power Supply. Decouple to ground with a 0.1uF ceramic capacitor and a 10uF tantalum capacitor."